# Altium footprint library MBR0580S1-7.PcbLib: 3 footprints
Each footprint in its own frame and in the unit in brackets; x right, y up, seen from the top. Pads: shape width x height; smd on the part's side, far side on the other; paste and mask are expansions set on the pad; w line width, h text height; cw(c..) or ccw(c..) is an arc to the next point about the centre after c.
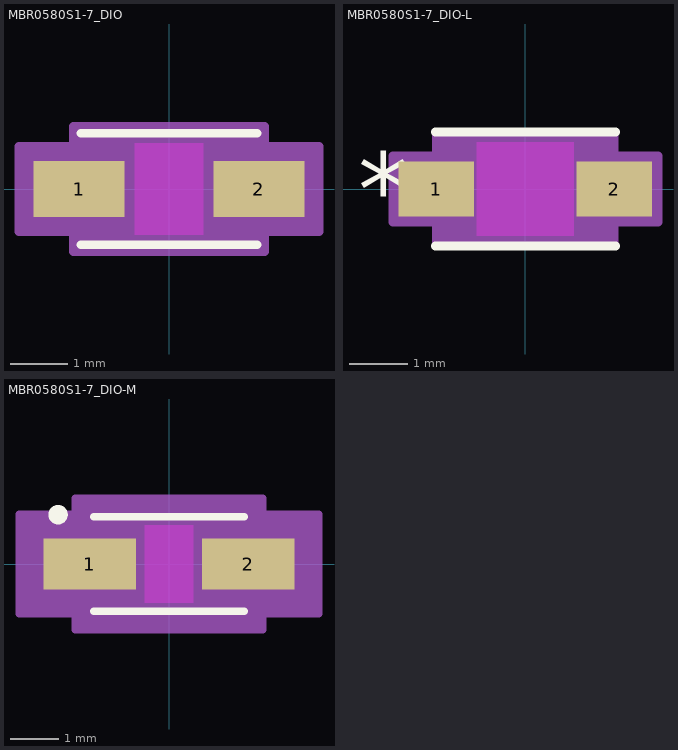
[diagram p0: the footprints below, top view; thin cyan lines are the x and y axes]

## MBR0580S1-7_DIO [mil]
pads (2):
  rect 63x39 smd paste+0 mask+0: 1(-62.22,0) 2(62.22,0)
Top Overlay:
  lines w6: -61,-38.5 61,-38.5 ; -61,38.5 61,38.5
  text "." at -90,30 h50
Keep-Out Layer:
  region: -23.62,-31.5 -23.62,31.5 23.62,31.5 23.62,-31.5
Mechanical 13:
  lines w1: -56,-16.75 -39.25,-33.5 ; -56,16.75 -39.25,33.5 ; -79.72,-18.5 -56,-18.5 -56,18.5 -79.72,18.5 -79.72,-18.5 ; -56,-33.5 -56,33.5 56,33.5 56,-33.5 -56,-33.5 ; 56,-18.5 79.72,-18.5 79.72,18.5 56,18.5 56,-18.5
  text "*" at -58.5,-25 h50
Mechanical 15:
  region: -66,-29.5 -103.72,-29.5 -103.72,29.5 -66,29.5 -66,43.5 66,43.5 66,29.5 103.72,29.5 103.72,-29.5 66,-29.5 66,-43.5 -66,-43.5
  lines w6: -103.72,-29.5 -103.72,29.5 -66,29.5 -66,43.5 66,43.5 66,29.5 103.72,29.5 103.72,-29.5 66,-29.5 66,-43.5 -66,-43.5 -66,-29.5 -103.72,-29.5
3D body "MBR0580S1-7_DIO.step": height 53.11, standoff 0, extent -79.72,-33.5 79.72,33.5

## MBR0580S1-7_DIO-L [mil]
pads (2):
  rect 51x37 smd paste+0 mask+0: 1(-60.22,0) 2(60.22,0)
Top Overlay:
  lines w6: -61,-38.5 61,-38.5 ; -61,38.5 61,38.5
  text "*" at -113.22,-25 h50
Keep-Out Layer:
  region: -32.72,-31.5 -32.72,31.5 32.72,31.5 32.72,-31.5
Mechanical 13:
  lines w1: -56,-16.75 -39.25,-33.5 ; -56,16.75 -39.25,33.5 ; -79.72,-18.5 -56,-18.5 -56,18.5 -79.72,18.5 -79.72,-18.5 ; -56,-33.5 -56,33.5 56,33.5 56,-33.5 -56,-33.5 ; 56,-18.5 79.72,-18.5 79.72,18.5 56,18.5 56,-18.5
  text "*" at -58.5,-25 h50
Mechanical 15:
  region: -60,-22.5 -89.72,-22.5 -89.72,22.5 -60,22.5 -60,37.5 60,37.5 60,22.5 89.72,22.5 89.72,-22.5 60,-22.5 60,-37.5 -60,-37.5
  lines w6: -89.72,-22.5 -60,-22.5 -60,-37.5 60,-37.5 60,-22.5 89.72,-22.5 89.72,22.5 60,22.5 60,37.5 -60,37.5 -60,22.5 -89.72,22.5 -89.72,-22.5
3D body "MBR0580S1-7_DIO.step": height 53.11, standoff 0, extent -79.72,-33.5 79.72,33.5

## MBR0580S1-7_DIO-M [mil]
pads (2):
  rect 75x41 smd paste+0 mask+0: 1(-64.22,0) 2(64.22,0)
Top Overlay:
  circle w7.87: c-90,40 r3.94
  lines w6: -61,-38.5 61,-38.5 ; -61,38.5 61,38.5
Keep-Out Layer:
  region: -19.68,-31.5 -19.68,31.5 19.68,31.5 19.68,-31.5
Mechanical 13:
  lines w1: -56,-16.75 -39.25,-33.5 ; -56,16.75 -39.25,33.5 ; -79.72,-18.5 -79.72,18.5 -56,18.5 -56,-18.5 -79.72,-18.5 ; -56,-33.5 56,-33.5 56,33.5 -56,33.5 -56,-33.5 ; 56,-18.5 56,18.5 79.72,18.5 79.72,-18.5 56,-18.5
  text "*" at -58.5,-25 h50
Mechanical 15:
  region: -76,-40.5 -121.72,-40.5 -121.72,40.5 -76,40.5 -76,53.5 76,53.5 76,40.5 121.72,40.5 121.72,-40.5 76,-40.5 76,-53.5 -76,-53.5
  lines w6: -121.72,-40.5 -121.72,40.5 -76,40.5 -76,53.5 76,53.5 76,40.5 121.72,40.5 121.72,-40.5 76,-40.5 76,-53.5 -76,-53.5 -76,-40.5 -121.72,-40.5
3D body "MBR0580S1-7_DIO.step": height 53.11, standoff 0, extent -79.72,-33.5 79.72,33.5